# Altium schematic symbol library CONN-1726770200.SchLib: 1 symbol
Pins are listed as number, name and electrical type; pins without a type are passive.

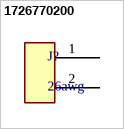
[diagram p0: symbol 1726770200]

## 1726770200
designator J?, comment 26awg
SolderRight Right-Angle Direct Solder Terminal 26-28 AWG In-Line Mount, Tin
footprint 172677-2000
pins: 1 NC, 2 NC